# EAGLE library part BTN7960 (library OldModernDeviceBackup)
BTN / BTS 7960 Infineion 40A 30V half bridge
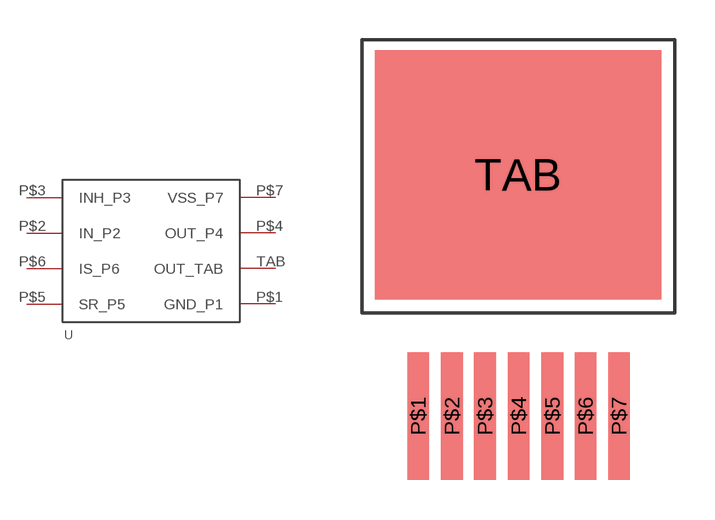
[diagram p37: symbol with the pads of TO263-7; footprint TO263-7]

Designator prefix -

## BTN7960_BTN7960  [TO263-7]
P$1  GND_P1
P$2  IN_P2
P$3  INH_P3
P$4  OUT_P4
P$5  SR_P5
P$6  IS_P6
P$7  VSS_P7
TAB  OUT_TAB

## Footprint TO263-7 (pad centres in mm)
smd 0.82 x 4.8: P$1 -3.852,-9.34; P$2 -2.579,-9.34; P$3 -1.331,-9.34; P$4 -0.061,-9.34; P$5 1.21,-9.34; P$6 2.458,-9.34; P$7 3.722,-9.34
smd 10.8 x 9.4: TAB -0.089,-0.242